# Altium schematic symbol library AP63300WU-7.SchLib: 1 symbol
Pins are listed as number, name and electrical type; pins without a type are passive.

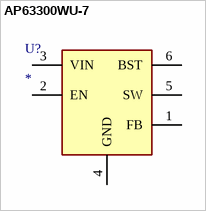
[diagram p0: symbol AP63300WU-7]

## AP63300WU-7
designator U?
Integrated Circuit; Manufacturer_Name: Diodes Inc.; Manufacturer_Part_Number: AP63300WU-7; Datasheet Link: https://www.diodes.com/assets/Datasheets/AP63300-AP63301.pdf; Height: 1mm; Mouser Part Number: 621-AP63300WU-7; Mouser Price/Stock: https://www.mouser.es/ProductDetail/Diodes-Incorporated/AP63300WU-7?qs=bZr6mbWTK5nNNXnHDcrFZg%3D%3D; Arrow Part Number: AP63300WU-7
footprint SOT95P280X100-6N
pins: 1 FB, 2 EN, 3 VIN, 4 GND, 5 SW, 6 BST